# Altium footprint library Miscellaneous.PcbLib: 4 footprints
Each footprint in its own frame and in the unit in brackets; x right, y up, seen from the top. Pads: shape width x height; smd on the part's side, far side on the other; paste and mask are expansions set on the pad; w line width, h text height; cw(c..) or ccw(c..) is an arc to the next point about the centre after c.
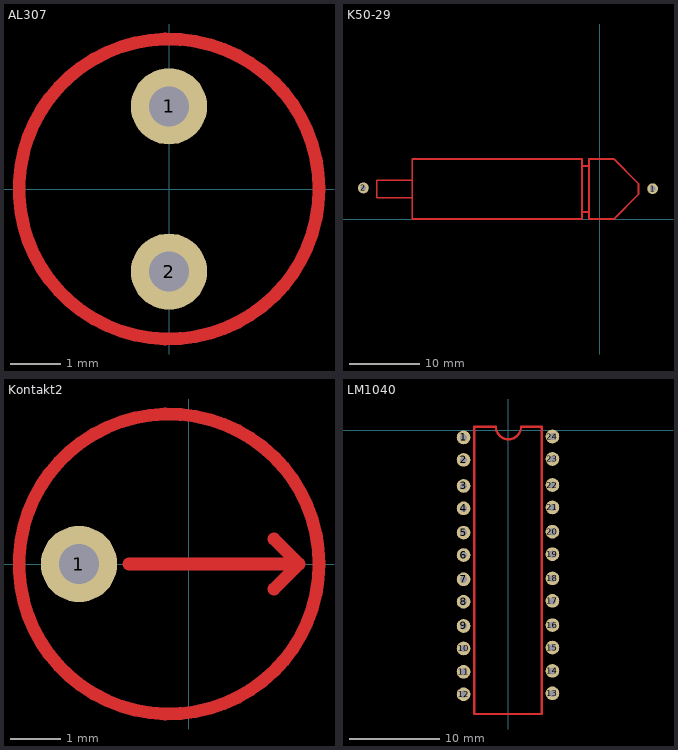
[diagram p0: the footprints below, top view; thin cyan lines are the x and y axes]

## AL307 [mil]
pads (2):
  round 60 hole 31.5: 1(0,65) 2(0,-65)
Top Layer:
  circle w10: c0,0 r118.11
  text "AL307" at -74.8,-11.81 h60

## K50-29 [mm]
pads (2):
  round 1.524 hole 0.8: 1(7.5,4.3) 2(-33.4,4.4)
Top Layer:
  lines w0.254: -26.5,3 -31.5,3 -31.5,5.5 -26.5,5.5 ; -2.5,1.1 -2.5,7.5 ; -1.6,1 -2.5,1 -2.5,0 -26.5,0 -26.5,8.5 -2.5,8.5 -2.5,7.5 ; -1.5,7.5 -2.5,7.5 ; -1.5,0 -1.5,8.5 0.5,8.5 2,8.5 5.5,5 5.5,3.5 2,0 1.4,0 0.5,0 -1.5,0
  text "K50-29" at -15.7,3.8 h1.52

## Kontakt2 [mil]
pads (1):
  round 60 hole 31.5: 1(-86.61,0)
Top Layer:
  circle w10: c-15.75,0 r118.11
  lines w10: -47.24,0 86.61,0 ; 66.93,-19.68 86.61,0 ; 66.93,19.68 86.61,0 ; 78.74,0 86.61,0 ; 86.61,0 86.61,0 ; 86.61,0 86.61,0
  text "Kontakt" at -110.24,35.43 h60

## LM1040 [mm]
pads (24):
  round 1.524 hole 0.8: 1(-5,-0.8) 2(-5,-3.3) 3(-5,-6.2) 4(-5,-8.7) 5(-5,-11.4) 6(-5,-13.9) 7(-5,-16.6) 8(-5,-19.1) 9(-5,-21.8) 10(-5,-24.3) 11(-5,-26.9) 12(-5,-29.4) 13(4.9,-29.3) 14(4.9,-26.8) 15(4.9,-24.2) 16(4.9,-21.7) 17(4.9,-19) 18(4.9,-16.5) 19(4.9,-13.8) 20(4.9,-11.3) 21(4.9,-8.6) 22(4.9,-6.1) 23(4.9,-3.2) 24(4.9,-0.7)
Top Layer:
  lines w0.254: -3.8,-31.6 3.7,-31.6 3.7,0.4 1.408,0.4 cw(c0,0.4) -1.408,0.4 -3.8,0.4 -3.8,-31.6
  text "LM1040" at -2,-15.3 h1.52